# Altium footprint library EISI.PcbLib: 695 footprints (part 26 of 44)
Each footprint in its own frame and in the unit in brackets; x right, y up, seen from the top. Pads: shape width x height; smd on the part's side, far side on the other; paste and mask are expansions set on the pad; w line width, h text height; cw(c..) or ccw(c..) is an arc to the next point about the centre after c.
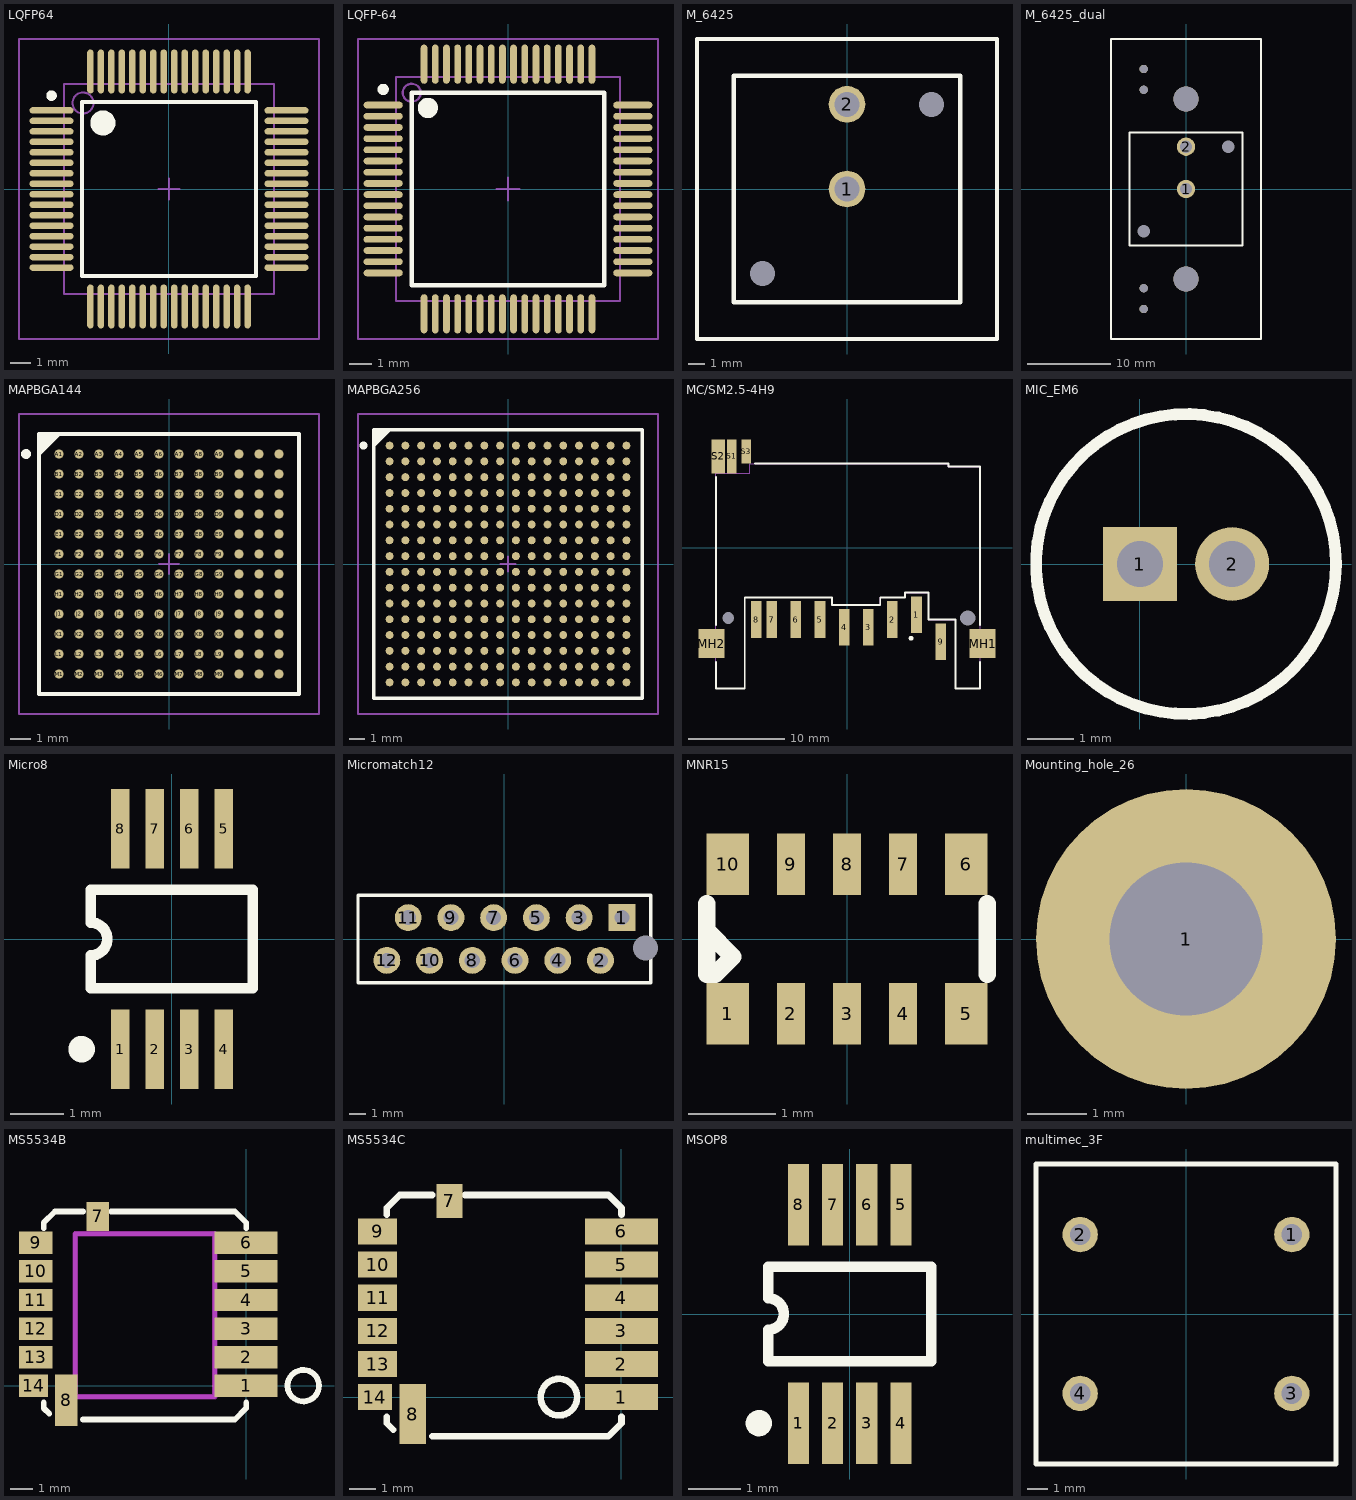
[diagram p25: the footprints below, top view; thin cyan lines are the x and y axes]

## LQFP64 [mm] "Thin QFP, 64-Leads, Body 10x10mm, Pitch 0.5mm, IPC Low Density"
height 1.6
pads (64):
  oval 2.1x0.3 smd: 1(-5.6,3.75) 2(-5.6,3.25) 3(-5.6,2.75) 4(-5.6,2.25) 5(-5.6,1.75) 6(-5.6,1.25) 7(-5.6,0.75) 8(-5.6,0.25) 9(-5.6,-0.25) 10(-5.6,-0.75) 11(-5.6,-1.25) 12(-5.6,-1.75) 13(-5.6,-2.25) 14(-5.6,-2.75) 15(-5.6,-3.25) 16(-5.6,-3.75) 33(5.6,-3.75) 34(5.6,-3.25) 35(5.6,-2.75) 36(5.6,-2.25) 37(5.6,-1.75) 38(5.6,-1.25) 39(5.6,-0.75) 40(5.6,-0.25) 41(5.6,0.25) 42(5.6,0.75) 43(5.6,1.25) 44(5.6,1.75) 45(5.6,2.25) 46(5.6,2.75) 47(5.6,3.25) 48(5.6,3.75)
  oval 0.3x2.1 smd: 17(-3.75,-5.6) 18(-3.25,-5.6) 19(-2.75,-5.6) 20(-2.25,-5.6) 21(-1.75,-5.6) 22(-1.25,-5.6) 23(-0.75,-5.6) 24(-0.25,-5.6) 25(0.25,-5.6) 26(0.75,-5.6) 27(1.25,-5.6) 28(1.75,-5.6) 29(2.25,-5.6) 30(2.75,-5.6) 31(3.25,-5.6) 32(3.75,-5.6) 49(3.75,5.6) 50(3.25,5.6) 51(2.75,5.6) 52(2.25,5.6) 53(1.75,5.6) 54(1.25,5.6) 55(0.75,5.6) 56(0.25,5.6) 57(-0.25,5.6) 58(-0.75,5.6) 59(-1.25,5.6) 60(-1.75,5.6) 61(-2.25,5.6) 62(-2.75,5.6) 63(-3.25,5.6) 64(-3.75,5.6)
TopOverlay:
  circle w0.6: c-3.15,3.15 r0.3
  circle w0.25: c-5.6,4.45 r0.125
  lines w0.2: -4.15,-4.15 4.15,-4.15 4.15,4.15 -4.15,4.15 -4.15,-4.15
Mechanical13:
  circle w0.1: c-4.1,4.1 r0.5
  lines w0.1: -5,-5 5,-5 5,5 -5,5 -5,-5
Mechanical15:
  lines w0.1: -0.5,0 0.5,0 ; 0,-0.5 0,0.5 ; -7.15,-7.15 7.15,-7.15 7.15,7.15 -7.15,7.15 -7.15,-7.15
3D body: height 1.6, standoff 0, extent -5,-5 5,5

## LQFP-64 [mm] "64-Pin LQFP 0.5 mm Pitch"
height 1.6
pads (64):
  oval 1.75x0.3 smd: 1(-5.575,3.75) 2(-5.575,3.25) 3(-5.575,2.75) 4(-5.575,2.25) 5(-5.575,1.75) 6(-5.575,1.25) 7(-5.575,0.75) 8(-5.575,0.25) 9(-5.575,-0.25) 10(-5.575,-0.75) 11(-5.575,-1.25) 12(-5.575,-1.75) 13(-5.575,-2.25) 14(-5.575,-2.75) 15(-5.575,-3.25) 16(-5.575,-3.75) 33(5.575,-3.75) 34(5.575,-3.25) 35(5.575,-2.75) 36(5.575,-2.25) 37(5.575,-1.75) 38(5.575,-1.25) 39(5.575,-0.75) 40(5.575,-0.25) 41(5.575,0.25) 42(5.575,0.75) 43(5.575,1.25) 44(5.575,1.75) 45(5.575,2.25) 46(5.575,2.75) 47(5.575,3.25) 48(5.575,3.75)
  oval 0.3x1.75 smd: 17(-3.75,-5.575) 18(-3.25,-5.575) 19(-2.75,-5.575) 20(-2.25,-5.575) 21(-1.75,-5.575) 22(-1.25,-5.575) 23(-0.75,-5.575) 24(-0.25,-5.575) 25(0.25,-5.575) 26(0.75,-5.575) 27(1.25,-5.575) 28(1.75,-5.575) 29(2.25,-5.575) 30(2.75,-5.575) 31(3.25,-5.575) 32(3.75,-5.575) 49(3.75,5.575) 50(3.25,5.575) 51(2.75,5.575) 52(2.25,5.575) 53(1.75,5.575) 54(1.25,5.575) 55(0.75,5.575) 56(0.25,5.575) 57(-0.25,5.575) 58(-0.75,5.575) 59(-1.25,5.575) 60(-1.75,5.575) 61(-2.25,5.575) 62(-2.75,5.575) 63(-3.25,5.575) 64(-3.75,5.575)
TopOverlay:
  circle w0.25: c-5.575,4.45 r0.125
  circle w0.6: c-3.58,3.62 r0.15
  lines w0.2: -4.3,-4.3 -4.3,4.3 4.3,4.3 4.3,-4.3 -4.3,-4.3
Mechanical13:
  circle w0.1: c-4.3,4.3 r0.4
  lines w0.1: -5,-5 -5,5 5,5 5,-5 -5,-5
Mechanical15:
  lines w0.1: -0.5,0 0.5,0 ; 0,-0.5 0,0.5 ; -6.7,-6.7 -6.7,6.7 6.7,6.7 6.7,-6.7 -6.7,-6.7
3D body: height 1.6, standoff 0.15, extent -5,-5 5,5

## M_6425 [mm] "Poussoir Marquardt serie 6425"
height 10.7
pads (4):
  round 2.2 hole 1.5: 1(0,0) 2(0,5.08)
  round 1.4 hole 1.5 unplated: ""(-5.08,-5.08) ""(5.08,5.08)
TopOverlay:
  lines w0.25: -9,-9 -9,9 9,9 9,-9 -9,-9 ; -6.8,-6.8 6.8,-6.8 6.8,6.8 -6.8,6.8 -6.8,-6.8

## M_6425_dual [mm] "Poussoir Marquardt serie 6425"
height 10.7
pads (10):
  round 2.2 hole 1.5: 1(0,0) 2(0,5.08)
  round 1 hole 1 unplated: ""(-5.08,-14.4) ""(-5.08,-11.9) ""(-5.08,11.9) ""(-5.08,14.4)
  round 1.4 hole 1.5 unplated: ""(-5.08,-5.08) ""(5.08,5.08)
  round 3 hole 3 unplated: ""(0,-10.8) ""(0,10.8)
TopOverlay:
  lines w0.25: -9,-18 9,-18 9,18 -9,18 -9,-18 ; -6.8,-6.8 -6.8,6.8 6.8,6.8 6.8,-6.8 -6.8,-6.8

## MAPBGA144 [mm] "BGA, 144-Leads, Body 13x13mm, Pitch 1mm"
height 1.6
pads (144):
  round 0.45 smd: A1(-5.5,5.5) A2(-4.5,5.5) A3(-3.5,5.5) A4(-2.5,5.5) A5(-1.5,5.5) A6(-0.5,5.5) A7(0.5,5.5) A8(1.5,5.5) A9(2.5,5.5) A10(3.5,5.5) A11(4.5,5.5) A12(5.5,5.5) B1(-5.5,4.5) B2(-4.5,4.5) B3(-3.5,4.5) B4(-2.5,4.5) B5(-1.5,4.5) B6(-0.5,4.5) B7(0.5,4.5) B8(1.5,4.5) B9(2.5,4.5) B10(3.5,4.5) B11(4.5,4.5) B12(5.5,4.5) C1(-5.5,3.5) C2(-4.5,3.5) C3(-3.5,3.5) C4(-2.5,3.5) C5(-1.5,3.5) C6(-0.5,3.5) C7(0.5,3.5) C8(1.5,3.5) C9(2.5,3.5) C10(3.5,3.5) C11(4.5,3.5) C12(5.5,3.5) D1(-5.5,2.5) D2(-4.5,2.5) D3(-3.5,2.5) D4(-2.5,2.5) D5(-1.5,2.5) D6(-0.5,2.5) D7(0.5,2.5) D8(1.5,2.5) D9(2.5,2.5) D10(3.5,2.5) D11(4.5,2.5) D12(5.5,2.5) E1(-5.5,1.5) E2(-4.5,1.5) E3(-3.5,1.5) E4(-2.5,1.5) E5(-1.5,1.5) E6(-0.5,1.5) E7(0.5,1.5) E8(1.5,1.5) E9(2.5,1.5) E10(3.5,1.5) E11(4.5,1.5) E12(5.5,1.5) F1(-5.5,0.5) F2(-4.5,0.5) F3(-3.5,0.5) F4(-2.5,0.5) F5(-1.5,0.5) F6(-0.5,0.5) F7(0.5,0.5) F8(1.5,0.5) F9(2.5,0.5) F10(3.5,0.5) F11(4.5,0.5) F12(5.5,0.5) G1(-5.5,-0.5) G2(-4.5,-0.5) G3(-3.5,-0.5) G4(-2.5,-0.5) G5(-1.5,-0.5) G6(-0.5,-0.5) G7(0.5,-0.5) G8(1.5,-0.5) G9(2.5,-0.5) G10(3.5,-0.5) G11(4.5,-0.5) G12(5.5,-0.5) H1(-5.5,-1.5) H2(-4.5,-1.5) H3(-3.5,-1.5) H4(-2.5,-1.5) H5(-1.5,-1.5) H6(-0.5,-1.5) H7(0.5,-1.5) H8(1.5,-1.5) H9(2.5,-1.5) H10(3.5,-1.5) H11(4.5,-1.5) H12(5.5,-1.5) J1(-5.5,-2.5) J2(-4.5,-2.5) J3(-3.5,-2.5) J4(-2.5,-2.5) J5(-1.5,-2.5) J6(-0.5,-2.5) J7(0.5,-2.5) J8(1.5,-2.5) J9(2.5,-2.5) J10(3.5,-2.5) J11(4.5,-2.5) J12(5.5,-2.5) K1(-5.5,-3.5) K2(-4.5,-3.5) K3(-3.5,-3.5) K4(-2.5,-3.5) K5(-1.5,-3.5) K6(-0.5,-3.5) K7(0.5,-3.5) K8(1.5,-3.5) K9(2.5,-3.5) K10(3.5,-3.5) K11(4.5,-3.5) K12(5.5,-3.5) L1(-5.5,-4.5) L2(-4.5,-4.5) L3(-3.5,-4.5) L4(-2.5,-4.5) L5(-1.5,-4.5) L6(-0.5,-4.5) L7(0.5,-4.5) L8(1.5,-4.5) L9(2.5,-4.5) L10(3.5,-4.5) L11(4.5,-4.5) L12(5.5,-4.5) M1(-5.5,-5.5) M2(-4.5,-5.5) M3(-3.5,-5.5) M4(-2.5,-5.5) M5(-1.5,-5.5) M6(-0.5,-5.5) M7(0.5,-5.5) M8(1.5,-5.5) M9(2.5,-5.5) M10(3.5,-5.5) M11(4.5,-5.5) M12(5.5,-5.5)
TopOverlay:
  circle w0.25: c-7.15,5.5 r0.125
  region: -5.5,6.5 -6.5,5.5 -6.5,6.5
  lines w0.2: -6.5,5.5 -5.5,6.5 ; -6.5,-6.5 -6.5,6.5 6.5,6.5 6.5,-6.5 -6.5,-6.5
Mechanical13:
  lines w0.1: -6.5,-6.5 -6.5,6.5 6.5,6.5 6.5,-6.5 -6.5,-6.5
Mechanical15:
  lines w0.1: -0.5,0 0.5,0 ; 0,-0.5 0,0.5 ; -7.5,-7.5 -7.5,7.5 7.5,7.5 7.5,-7.5 -7.5,-7.5
3D body: height 1.6, standoff 0, extent -6.5,-6.5 6.5,6.5

## MAPBGA256 [mm] "BGA, 256-Leads, Body 17x17mm, Pitch 1mm"
height 1.6
pads (256):
  round 0.5 smd: A1(-7.5,7.5) A2(-6.5,7.5) A3(-5.5,7.5) A4(-4.5,7.5) A5(-3.5,7.5) A6(-2.5,7.5) A7(-1.5,7.5) A8(-0.5,7.5) A9(0.5,7.5) A10(1.5,7.5) A11(2.5,7.5) A12(3.5,7.5) A13(4.5,7.5) A14(5.5,7.5) A15(6.5,7.5) A16(7.5,7.5) B1(-7.5,6.5) B2(-6.5,6.5) B3(-5.5,6.5) B4(-4.5,6.5) B5(-3.5,6.5) B6(-2.5,6.5) B7(-1.5,6.5) B8(-0.5,6.5) B9(0.5,6.5) B10(1.5,6.5) B11(2.5,6.5) B12(3.5,6.5) B13(4.5,6.5) B14(5.5,6.5) B15(6.5,6.5) B16(7.5,6.5) C1(-7.5,5.5) C2(-6.5,5.5) C3(-5.5,5.5) C4(-4.5,5.5) C5(-3.5,5.5) C6(-2.5,5.5) C7(-1.5,5.5) C8(-0.5,5.5) C9(0.5,5.5) C10(1.5,5.5) C11(2.5,5.5) C12(3.5,5.5) C13(4.5,5.5) C14(5.5,5.5) C15(6.5,5.5) C16(7.5,5.5) D1(-7.5,4.5) D2(-6.5,4.5) D3(-5.5,4.5) D4(-4.5,4.5) D5(-3.5,4.5) D6(-2.5,4.5) D7(-1.5,4.5) D8(-0.5,4.5) D9(0.5,4.5) D10(1.5,4.5) D11(2.5,4.5) D12(3.5,4.5) D13(4.5,4.5) D14(5.5,4.5) D15(6.5,4.5) D16(7.5,4.5) E1(-7.5,3.5) E2(-6.5,3.5) E3(-5.5,3.5) E4(-4.5,3.5) E5(-3.5,3.5) E6(-2.5,3.5) E7(-1.5,3.5) E8(-0.5,3.5) E9(0.5,3.5) E10(1.5,3.5) E11(2.5,3.5) E12(3.5,3.5) E13(4.5,3.5) E14(5.5,3.5) E15(6.5,3.5) E16(7.5,3.5) F1(-7.5,2.5) F2(-6.5,2.5) F3(-5.5,2.5) F4(-4.5,2.5) F5(-3.5,2.5) F6(-2.5,2.5) F7(-1.5,2.5) F8(-0.5,2.5) F9(0.5,2.5) F10(1.5,2.5) F11(2.5,2.5) F12(3.5,2.5) F13(4.5,2.5) F14(5.5,2.5) F15(6.5,2.5) F16(7.5,2.5) G1(-7.5,1.5) G2(-6.5,1.5) G3(-5.5,1.5) G4(-4.5,1.5) G5(-3.5,1.5) G6(-2.5,1.5) G7(-1.5,1.5) G8(-0.5,1.5) G9(0.5,1.5) G10(1.5,1.5) G11(2.5,1.5) G12(3.5,1.5) G13(4.5,1.5) G14(5.5,1.5) G15(6.5,1.5) G16(7.5,1.5) H1(-7.5,0.5) H2(-6.5,0.5) H3(-5.5,0.5) H4(-4.5,0.5) H5(-3.5,0.5) H6(-2.5,0.5) H7(-1.5,0.5) H8(-0.5,0.5) H9(0.5,0.5) H10(1.5,0.5) H11(2.5,0.5) H12(3.5,0.5) H13(4.5,0.5) H14(5.5,0.5) H15(6.5,0.5) H16(7.5,0.5) J1(-7.5,-0.5) J2(-6.5,-0.5) J3(-5.5,-0.5) J4(-4.5,-0.5) J5(-3.5,-0.5) J6(-2.5,-0.5) J7(-1.5,-0.5) J8(-0.5,-0.5) J9(0.5,-0.5) J10(1.5,-0.5) J11(2.5,-0.5) J12(3.5,-0.5) J13(4.5,-0.5) J14(5.5,-0.5) J15(6.5,-0.5) J16(7.5,-0.5) K1(-7.5,-1.5) K2(-6.5,-1.5) K3(-5.5,-1.5) K4(-4.5,-1.5) K5(-3.5,-1.5) K6(-2.5,-1.5) K7(-1.5,-1.5) K8(-0.5,-1.5) K9(0.5,-1.5) K10(1.5,-1.5) K11(2.5,-1.5) K12(3.5,-1.5) K13(4.5,-1.5) K14(5.5,-1.5) K15(6.5,-1.5) K16(7.5,-1.5) L1(-7.5,-2.5) L2(-6.5,-2.5) L3(-5.5,-2.5) L4(-4.5,-2.5) L5(-3.5,-2.5) L6(-2.5,-2.5) L7(-1.5,-2.5) L8(-0.5,-2.5) L9(0.5,-2.5) L10(1.5,-2.5) L11(2.5,-2.5) L12(3.5,-2.5) L13(4.5,-2.5) L14(5.5,-2.5) L15(6.5,-2.5) L16(7.5,-2.5) M1(-7.5,-3.5) M2(-6.5,-3.5) M3(-5.5,-3.5) M4(-4.5,-3.5) M5(-3.5,-3.5) M6(-2.5,-3.5) M7(-1.5,-3.5) M8(-0.5,-3.5) M9(0.5,-3.5) M10(1.5,-3.5) M11(2.5,-3.5) M12(3.5,-3.5) M13(4.5,-3.5) M14(5.5,-3.5) M15(6.5,-3.5) M16(7.5,-3.5) N1(-7.5,-4.5) N2(-6.5,-4.5) N3(-5.5,-4.5) N4(-4.5,-4.5) N5(-3.5,-4.5) N6(-2.5,-4.5) N7(-1.5,-4.5) N8(-0.5,-4.5) N9(0.5,-4.5) N10(1.5,-4.5) N11(2.5,-4.5) N12(3.5,-4.5) N13(4.5,-4.5) N14(5.5,-4.5) N15(6.5,-4.5) N16(7.5,-4.5) P1(-7.5,-5.5) P2(-6.5,-5.5) P3(-5.5,-5.5) P4(-4.5,-5.5) P5(-3.5,-5.5) P6(-2.5,-5.5) P7(-1.5,-5.5) P8(-0.5,-5.5) P9(0.5,-5.5) P10(1.5,-5.5) P11(2.5,-5.5) P12(3.5,-5.5) P13(4.5,-5.5) P14(5.5,-5.5) P15(6.5,-5.5) P16(7.5,-5.5) R1(-7.5,-6.5) R2(-6.5,-6.5) R3(-5.5,-6.5) R4(-4.5,-6.5) R5(-3.5,-6.5) R6(-2.5,-6.5) R7(-1.5,-6.5) R8(-0.5,-6.5) R9(0.5,-6.5) R10(1.5,-6.5) R11(2.5,-6.5) R12(3.5,-6.5) R13(4.5,-6.5) R14(5.5,-6.5) R15(6.5,-6.5) R16(7.5,-6.5) T1(-7.5,-7.5) T2(-6.5,-7.5) T3(-5.5,-7.5) T4(-4.5,-7.5) T5(-3.5,-7.5) T6(-2.5,-7.5) T7(-1.5,-7.5) T8(-0.5,-7.5) T9(0.5,-7.5) T10(1.5,-7.5) T11(2.5,-7.5) T12(3.5,-7.5) T13(4.5,-7.5) T14(5.5,-7.5) T15(6.5,-7.5) T16(7.5,-7.5)
TopOverlay:
  circle w0.25: c-9.15,7.5 r0.125
  region: -7.5,8.5 -8.5,7.5 -8.5,8.5
  lines w0.2: -8.5,7.5 -7.5,8.5 ; -8.5,-8.5 -8.5,8.5 8.5,8.5 8.5,-8.5 -8.5,-8.5
Mechanical13:
  lines w0.1: -8.5,-8.5 -8.5,8.5 8.5,8.5 8.5,-8.5 -8.5,-8.5
Mechanical15:
  lines w0.1: -0.5,0 0.5,0 ; 0,-0.5 0,0.5 ; -9.5,-9.5 -9.5,9.5 9.5,9.5 9.5,-9.5 -9.5,-9.5
3D body: height 1.87, standoff 0, extent -8.5,-8.5 8.5,8.5

## MC/SM2.5-4H9 [mm] "Connector; SD Card Type A, SM, 9 Position, Right Angle, Pitch 2.5 mm, Body 23.3 x 27.4 x 3.4 mm (LxWxH)"
height 3.4
pads (16):
  rect 1.1x3.79 smd: 1(7.2,-6.955) 2(4.7,-7.455) 3(2.2,-8.255) 4(-0.3,-8.255) 5(-2.8,-7.455) 6(-5.3,-7.455) 7(-7.8,-7.455) 8(-9.425,-7.455) 9(9.7,-9.755)
  rect 2.7x3 smd: MH1(14.05,-9.95) MH2(-14.05,-9.95)
  round 0.9 hole 1.2 unplated: MH3(-12.3,-7.3)
  round 1.3 hole 1.6 unplated: MH4(12.5,-7.3)
  rect 1x3.5 smd: S1(-11.95,9.45)
  rect 1.4x3.5 smd: S2(-13.35,9.45)
  rect 1x2.5 smd: S3(-10.45,9.95)
TopOverlay:
  circle w0.25: c6.65,-9.4 r0.125
  lines w0.2: -13.6,-11.85 -13.6,-14.6 -10.6,-14.6 -10.6,-5.155 -1.55,-5.155 -1.55,-5.955 3.45,-5.955 3.45,-5.155 6,-5.155 6,-4.655 8.45,-4.655 8.45,-7.455 11.25,-7.455 11.25,-14.6 13.8,-14.6 13.8,-11.85 ; -13.6,-8.05 -13.6,7.3 ; -9.55,8.7 10.5,8.7 10.5,8.4 13.8,8.4 13.8,-8.05
Mechanical13:
  lines w0.1: -10.1,7.695 -10.1,8.695 ; -10.1,7.7 -13.6,7.7 -13.6,-14.6 -10.6,-14.6 -10.6,-5.155 -1.55,-5.155 -1.55,-5.955 3.45,-5.955 3.45,-5.155 6,-5.155 6,-4.655 8.45,-4.655 8.45,-7.455 11.25,-7.455 11.25,-14.6 13.8,-14.6 13.8,8.4 10.5,8.4 10.5,8.7 -10.1,8.7

## MIC_EM6 [mm] "Microphone electret"
height 5.2
pads (2):
  rect 1.6x1.6 hole 1: 1(0,0)
  round 1.6 hole 1: 2(2,0)
TopOverlay:
  circle w0.254: c1,0 r3.25

## Micro8 [mm] "Shrink Small Outline; 8 Leads; Body Width 3 mm; Pitch 0.65 mm"
height 1.11
pads (8):
  rect 0.35x1.5 smd: 1(-0.975,-2.075) 2(-0.325,-2.075) 3(0.325,-2.075) 4(0.975,-2.075) 5(0.975,2.075) 6(0.325,2.075) 7(-0.325,2.075) 8(-0.975,2.075)
TopOverlay:
  circle w0.25: c-1.7,-2.075 r0.125
  lines w0.2: -1.525,-0.925 1.525,-0.925 1.525,0.925 -1.525,0.925 -1.525,0.308 cw(c-1.525,0) -1.525,-0.308 -1.525,-0.925

## Micromatch12 [mm]
height 4
pads (13):
  rect 1.6x1.6 hole 0.9: 1(6.985,1.27)
  round 1.6 hole 0.9: 2(5.715,-1.27) 3(4.445,1.27) 4(3.175,-1.27) 5(1.905,1.27) 6(0.635,-1.27) 7(-0.635,1.27) 8(-1.905,-1.27) 9(-3.175,1.27) 10(-4.445,-1.27) 11(-5.715,1.27) 12(-6.985,-1.27)
  round 1 hole 1.5: ""(8.385,-0.53)
TopOverlay:
  lines w0.2: -8.7,-2.6 -8.7,2.6 8.7,2.6 8.7,-2.6 -8.7,-2.6

## MNR15 [mm] "Chip Resistor Networks 3.2 x 1.6mm"
height 0.5
pads (10):
  rect 0.48x0.7 smd: 1(-1.36,-0.85) 5(1.36,-0.85) 6(1.36,0.85) 10(-1.36,0.85)
  rect 0.32x0.7 smd: 2(-0.64,-0.85) 3(0,-0.85) 4(0.64,-0.85) 7(0.64,0.85) 8(0,0.85) 9(-0.64,0.85)
TopOverlay:
  lines w0.2: -1.6,0.1 -1.3,-0.2 -1.5,-0.4 -1.6,-0.4 -1.6,0.4 ; 1.6,-0.4 1.6,0.4

## Mounting_hole_26 [mm] "2.6mm hole, 5.1mm pad"
pads (1):
  round 5.1 hole 2.6: 1(0,0)

## MS5534B [mm] "Barometer Module"
height 4.3
pads (14):
  rect 2.8x1 smd: 1(0,0) 2(0,1.27) 3(0,2.54) 4(0,3.81) 5(0,5.08) 6(0,6.35)
  rect 1x1.3 smd: 7(-6.6,7.525)
  rect 1x2.3 smd: 8(-8,-0.65)
  rect 1.5x1 smd: 9(-9.35,6.35) 10(-9.35,5.08) 11(-9.35,3.81) 12(-9.35,2.54) 13(-9.35,1.27)
  rect 1.3x1 smd: 14(-9.45,0)
TopOverlay:
  circle w0.254: c2.54,0 r0.7
  lines w0.254: -9,-0.75 -9,-1 -8.75,-1.25 ; -9,7 -9,7.25 -8.5,7.75 -7.25,7.75 ; -7.25,-1.5 -0.5,-1.5 0,-1 0,-0.75 ; -6,7.75 -5.75,7.75 -0.5,7.75 0,7.25 0,7
KeepOutLayer:
  lines w0.25: -7.6,-0.5 -1.4,-0.5 -1.4,6.75 -7.6,6.75 -7.6,-0.5
Mechanical1:
  lines w0.2: -7.6,-0.5 -7.6,6.75 -1.4,6.75 -1.4,-0.5 -7.6,-0.5

## MS5534C [mm] "Barometer Module"
height 4.3
pads (14):
  rect 2.8x1 smd: 1(0,0) 2(0,1.27) 3(0,2.54) 4(0,3.81) 5(0,5.08) 6(0,6.35)
  rect 1x1.3 smd: 7(-6.6,7.525)
  rect 1x2.3 smd: 8(-8,-0.65)
  rect 1.5x1 smd: 9(-9.35,6.35) 10(-9.35,5.08) 11(-9.35,3.81) 12(-9.35,2.54) 13(-9.35,1.27)
  rect 1.3x1 smd: 14(-9.45,0)
TopOverlay:
  circle w0.254: c-2.4,0 r0.7
  lines w0.254: -9,-0.75 -9,-1 -8.75,-1.25 ; -9,7 -9,7.25 -8.5,7.75 -7.25,7.75 ; -7.25,-1.5 -0.5,-1.5 0,-1 0,-0.75 ; -6,7.75 -5.75,7.75 -0.5,7.75 0,7.25 0,7

## MSOP8 [mm] "Shrink Small Outline, MSOP; 8 Leads; Body Width 3 mm; Pitch 0.65 mm"
height 1.1
pads (8):
  rect 0.4x1.55 smd: 1(-0.975,-2.075) 2(-0.325,-2.075) 3(0.325,-2.075) 4(0.975,-2.075) 5(0.975,2.075) 6(0.325,2.075) 7(-0.325,2.075) 8(-0.975,2.075)
TopOverlay:
  circle w0.25: c-1.725,-2.075 r0.125
  lines w0.2: -1.55,-0.9 -1.55,-0.3 ccw(c-1.55,0) -1.55,0.3 -1.55,0.9 1.55,0.9 1.55,-0.9 -1.55,-0.9

## multimec_3F [mm] "Bouton poussoir multimec 3F"
height 19.1
pads (4):
  round 1.7 hole 1: 1(5.08,3.81) 2(-5.08,3.81) 3(5.08,-3.81) 4(-5.08,-3.81)
TopOverlay:
  lines w0.25: -7.2,-7.2 -7.2,7.2 7.2,7.2 7.2,-7.2 -7.2,-7.2